# Altium schematic symbol library Fiducial,SMD.Schlib: 1 symbol
Pins are listed as number, name and electrical type; pins without a type are passive.

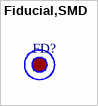
[diagram p0: symbol Fiducial,SMD]

## Fiducial,SMD
designator FD?  (value not drawn)
SMD Fiduical